# Altium schematic symbol library BLE_NANO.SchLib: 1 symbol
Pins are listed as number, name and electrical type; pins without a type are passive.

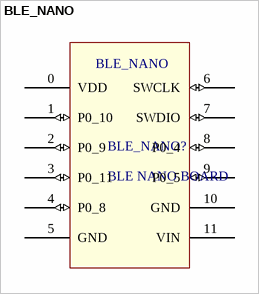
[diagram p0: symbol BLE_NANO]

## BLE_NANO
designator BLE_NANO?, comment BLE NANO BOARD
BLE NANO LAYOUT
footprint BLE_NANO_SMT (SMT Pads for BLE Nano)
pins: 0 VDD (power), 1 P0_10 (io), 2 P0_9 (io), 3 P0_11 (io), 4 P0_8 (io), 5 GND (power), 6 SWCLK (io), 7 SWDIO (io), 8 P0_4 (io), 9 P0_5 (io), 10 GND (power), 11 VIN (power)